# Altium footprint library PcbLib.PcbLib: 63 footprints (part 3 of 4)
Each footprint in its own frame and in the unit in brackets; x right, y up, seen from the top. Pads: shape width x height; smd on the part's side, far side on the other; paste and mask are expansions set on the pad; w line width, h text height; cw(c..) or ccw(c..) is an arc to the next point about the centre after c.
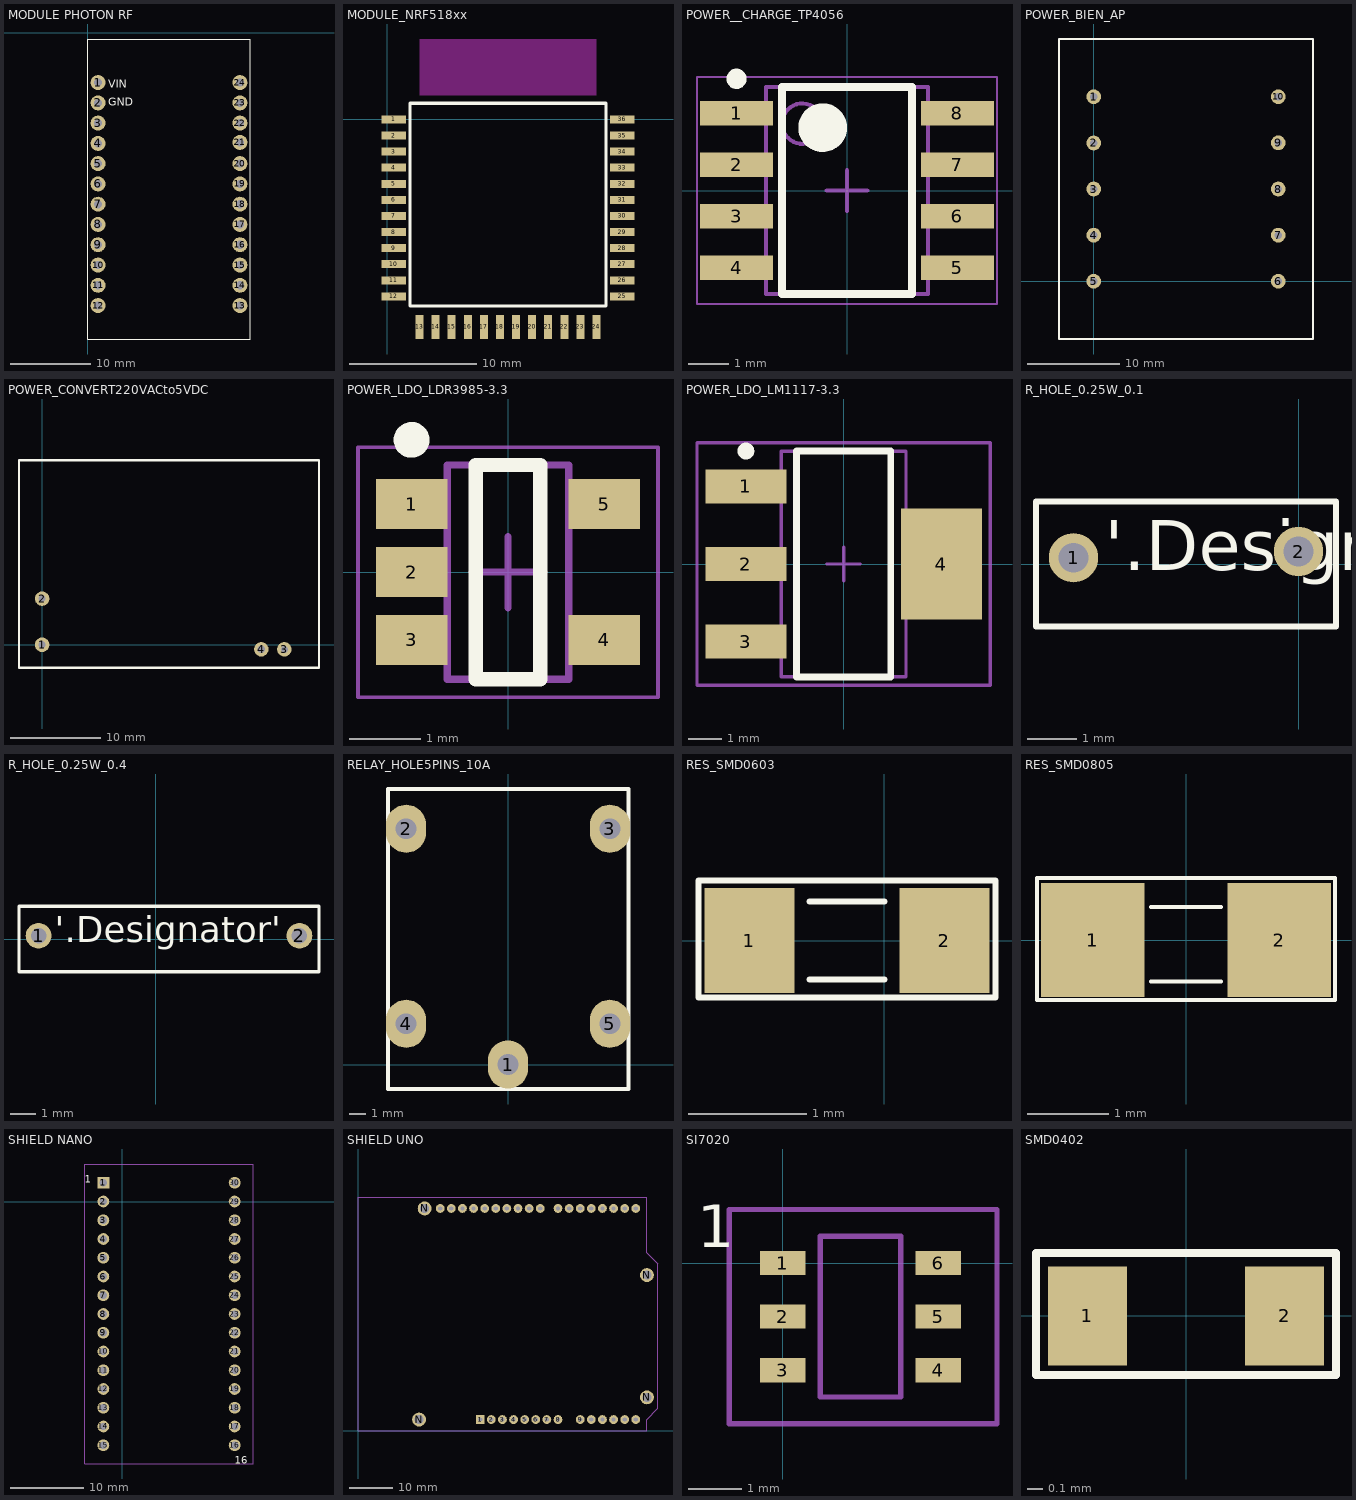
[diagram p2: the footprints below, top view; thin cyan lines are the x and y axes]

## MODULE PHOTON RF [mil]
pads (24):
  round 74 hole 40: 1(50,-245) 2(50,-345) 3(50,-445) 4(50,-545) 5(50,-645) 6(50,-745) 7(50,-845) 8(50,-945) 9(50,-1045) 10(50,-1145) 11(50,-1245) 12(50,-1345) 13(750,-1345) 14(750,-1245) 15(750,-1145) 16(750,-1045) 17(750,-945) 18(750,-845) 19(750,-745) 20(750,-645) 21(750,-540) 22(750,-445) 23(750,-345) 24(750,-245)
Top Overlay:
  lines w5.12: 0,-1510 0,-30 800,-30 800,-1510 0,-1510
  text "GND" at 100,-360 h40
  text "VIN" at 100,-270 h40
3D body "13345.STEP": height 294, standoff -241.83, extent -1,-1512.2 801,-30

## MODULE_NRF518xx [mil] "MODULE BLE NRF51822 Madeby TUAN ANH"
pads (36):
  rect 75x25 smd: 1(20,0) 2(20,-50) 3(20,-100) 4(20,-150) 5(20,-200) 6(20,-250) 7(20,-300) 8(20,-350) 9(20,-400) 10(20,-450) 11(20,-500) 12(20,-550) 25(730,-550) 26(730,-500) 27(730,-450) 28(730,-400) 29(730,-350) 30(730,-300) 31(730,-250) 32(730,-200) 33(730,-150) 34(730,-100) 35(730,-50) 36(730,0)
  rect 25x75 smd: 13(100,-645) 14(150,-645) 15(200,-645) 16(250,-645) 17(300,-645) 18(350,-645) 19(400,-645) 20(450,-645) 21(500,-645) 22(550,-645) 23(600,-645) 24(650,-645)
Top Overlay:
  lines w10: 70,-580 70,50 680,50 680,-580 70,-580
Keep-Out Layer:
  region: 100,250 100,75 650,75 650,250
3D body: height 19.68, standoff 1.97, extent 20,-10 70,10
3D body: height 19.68, standoff 1.97, extent 20,-60 70,-40
3D body: height 19.68, standoff 1.97, extent 20,-110 70,-90
3D body: height 19.68, standoff 1.97, extent 20,-160 70,-140
3D body: height 19.68, standoff 1.97, extent 20,-210 70,-190
3D body: height 19.68, standoff 1.97, extent 20,-260 70,-240
3D body: height 19.68, standoff 1.97, extent 20,-310 70,-290
3D body: height 19.68, standoff 1.97, extent 20,-360 70,-340
3D body: height 19.68, standoff 1.97, extent 20,-410 70,-390
3D body: height 19.68, standoff 1.97, extent 20,-460 70,-440
3D body: height 19.68, standoff 1.97, extent 20,-510 70,-490
3D body: height 19.68, standoff 1.97, extent 20,-560 70,-540
3D body: height 19.68, standoff 1.97, extent 90,-630 110,-580
3D body: height 19.68, standoff 1.97, extent 140,-630 160,-580
3D body: height 19.68, standoff 1.97, extent 190,-630 210,-580
3D body: height 19.68, standoff 1.97, extent 240,-630 260,-580
3D body: height 19.68, standoff 1.97, extent 290,-630 310,-580
3D body: height 19.68, standoff 1.97, extent 340,-630 360,-580
3D body: height 19.68, standoff 1.97, extent 390,-630 410,-580
3D body: height 19.68, standoff 1.97, extent 440,-630 460,-580
3D body: height 19.68, standoff 1.97, extent 490,-630 510,-580
3D body: height 19.68, standoff 1.97, extent 540,-630 560,-580
3D body: height 19.68, standoff 1.97, extent 590,-630 610,-580
3D body: height 19.68, standoff 1.97, extent 640,-630 660,-580
3D body: height 19.68, standoff 1.97, extent 680,-560 730,-540
3D body: height 19.68, standoff 1.97, extent 680,-510 730,-490
3D body: height 19.68, standoff 1.97, extent 680,-460 730,-440
3D body: height 19.68, standoff 1.97, extent 680,-410 730,-390
3D body: height 19.68, standoff 1.97, extent 680,-360 730,-340
3D body: height 19.68, standoff 1.97, extent 680,-310 730,-290
3D body: height 19.68, standoff 1.97, extent 680,-260 730,-240
3D body: height 19.68, standoff 1.97, extent 680,-210 730,-190
3D body: height 19.68, standoff 1.97, extent 680,-160 730,-140
3D body: height 19.68, standoff 1.97, extent 680,-110 730,-90
3D body: height 19.68, standoff 1.97, extent 680,-60 730,-40
3D body: height 19.68, standoff 1.97, extent 680,-10 730,10
3D body: height 39.37, standoff 1.97, extent 70,-585 680,45
3D body: height 59.06, standoff 41.34, extent 270,-400 470,-200

## POWER__CHARGE_TP4056 [mm] "SOP, 8-Leads, Body 4.90x3.90mm, Pitch 1.27mm, IPC Medium Density"
height 1.75
pads (8):
  rect 1.8x0.6 smd: 1(-2.725,1.905) 2(-2.725,0.635) 3(-2.725,-0.635) 4(-2.725,-1.905) 5(2.725,-1.905) 6(2.725,-0.635) 7(2.725,0.635) 8(2.725,1.905)
Top Overlay:
  circle w0.25: c-2.725,2.755 r0.125
  circle w0.6: c-0.6,1.55 r0.3
  lines w0.2: -1.6,-2.55 -1.6,2.55 1.6,2.55 1.6,-2.55 -1.6,-2.55
Mechanical 13:
  circle w0.1: c-1.1,1.65 r0.5
  lines w0.1: -2,-2.55 -2,2.55 2,2.55 2,-2.55 -2,-2.55
Mechanical 15:
  lines w0.05: -3.7,-2.8 -3.7,2.8 3.7,2.8 3.7,-2.8 -3.7,-2.8
  lines w0.1: -0.5,0 0.5,0 ; 0,-0.5 0,0.5
3D body "User Library-sop-8.step": height 1.6, standoff 0, extent -3.021,-2.51 3.021,2.51

## POWER_BIEN_AP [mm]
pads (10):
  round 1.6 hole 0.8: 1(0,20) 2(0,14.986) 3(0,10) 4(0,5) 5(0,0) 6(20,0) 7(20,5) 8(20,10) 9(20,15) 10(20,20)
Top Overlay:
  lines w0.254: -3.75,-6.25 23.75,-6.25 23.75,26.25 -3.75,26.25 -3.75,-6.25
3D body: height 24, standoff 21.7, extent 2.286,-2.54 17.78,22.86
3D body: height 21.5, standoff 0.2, extent -2.54,-5.08 22.86,25.4

## POWER_CONVERT220VACto5VDC [mm]
pads (4):
  round 1.6 hole 0.8: 1(0,0) 2(0,5.08) 3(26.67,-0.508) 4(24.13,-0.5)
Top Overlay:
  lines w0.254: -2.54,-2.54 30.48,-2.54 30.48,20.32 -2.54,20.32 -2.54,-2.54
3D body: height 15, standoff 0.2, extent -1.27,-1.27 29.21,19.05

## POWER_LDO_LDR3985-3.3 [mm] "SOT23, 5-Leads, Body 2.90x2.80mm, Pitch 0.95mm, IPC Medium Density"
height 0.9
pads (5):
  rect 1x0.7 smd: 1(-1.35,0.95) 2(-1.35,0) 3(-1.35,-0.95) 4(1.35,-0.95) 5(1.35,0.95)
Top Overlay:
  circle w0.25: c-1.35,1.85 r0.125
  lines w0.2: -0.45,-1.5 -0.45,1.5 0.45,1.5 0.45,-1.5 -0.45,-1.5
Mechanical 13:
  lines w0.1: -0.85,-1.5 0.85,-1.5 0.85,1.5 -0.85,1.5 -0.85,-1.5
Mechanical 15:
  lines w0.05: -2.1,-1.75 2.1,-1.75 2.1,1.75 -2.1,1.75 -2.1,-1.75
  lines w0.1: -0.5,0 0.5,0 ; 0,-0.5 0,0.5
3D body: height 0.9, standoff 0.05, extent -0.85,-1.5 0.85,1.5

## POWER_LDO_LM1117-3.3 [mm] "SOT223, 4-Leads, Body 6.5x3.5mm, Pitch 2.3mm, Lead Span 7mm, IPC Medium Density"
height 1.8
pads (4):
  rect 2.4x1 smd: 1(-2.9,2.3) 2(-2.9,0) 3(-2.9,-2.3)
  rect 2.4x3.3 smd: 4(2.9,0)
Top Overlay:
  circle w0.25: c-2.9,3.35 r0.125
  lines w0.2: -1.4,-3.35 -1.4,3.35 1.4,3.35 1.4,-3.35 -1.4,-3.35
Mechanical 13:
  lines w0.1: -1.85,-3.35 -1.85,3.35 1.85,3.35 1.85,-3.35 -1.85,-3.35
Mechanical 15:
  lines w0.1: -0.5,0 0.5,0 ; 0,-0.5 0,0.5 ; -4.35,-3.6 -4.35,3.6 4.35,3.6 4.35,-3.6 -4.35,-3.6
3D body: height 1.8, standoff 0, extent -1.85,-3.35 1.85,3.35

## R_HOLE_0.25W_0.1 [mm]
pads (2):
  round 1 hole 0.6: 1(-4.572,0.127) 2(0,0.254)
Top Overlay:
  lines w0.13: -5.334,-1.27 -5.334,1.27 0.762,1.27 0.762,-1.27 -5.334,-1.27
  text "'.Designator'" at -3.937,-0.127 h1.02
3D body "User Library-RESISTOR, 0_25 W, 0_4 IN LEAD PITCH.step": height 2.93, standoff -2.54, extent -4.826,-1.041 5.944,1.27

## R_HOLE_0.25W_0.4 [mm]
pads (2):
  round 1 hole 0.6: 1(-4.572,0.127) 2(5.588,0.127)
Top Overlay:
  lines w0.13: -5.334,-1.27 -5.334,1.27 6.35,1.27 6.35,-1.27 -5.334,-1.27
  text "'.Designator'" at -3.937,-0.127 h1.02
3D body "User Library-RESISTOR, 0_25 W, 0_4 IN LEAD PITCH.step": height 2.93, standoff -2.54, extent -4.826,-1.041 5.944,1.27

## RELAY_HOLE5PINS_10A [mm]
pads (5):
  oval 2.5x3 hole 1.3: 1(0,0) 2(-6.35,14.7) 3(6.35,14.7) 4(-6.35,2.54) 5(6.35,2.54)
Top Overlay:
  lines w0.254: -7.493,-1.524 -7.493,17.176 7.507,17.176 7.507,-1.524 -7.493,-1.524
3D body: height 16, standoff 0, extent -7.493,-1.524 7.493,17.145

## RES_SMD0603 [mil] "Compoment SMD 60x30mil"
height 50
pads (2):
  rect 30x35 smd: 1(-45,0) 2(20,0)
Top Overlay:
  lines w2: -25,-13 0,-13 ; -25,13 0,13 ; -62,-19 -52.75,-19 -0.25,-19 37,-19 37,20 -62,20 -62,-19
3D body "SW3DPS-RESISTOR 0603-DEFAULT.STEP": height 18.9, standoff -1.18, extent -46.49,-16.92 16.51,16.93

## RES_SMD0805 [mil] "Compoment SMD 80x50mil"
height 50
pads (2):
  rect 50x55 smd: 1(-45,0) 2(45,0)
Top Overlay:
  lines w2: -17,-20 17,-20 ; -17,16 17,16 ; -72,-29 -72,30 72,30 72,-29 -72,-29
3D body "SW3dPS-smt_resistor_packages.STEP": height 24.02, standoff -0.39, extent -39.76,-27 39.77,23

## SHIELD NANO [mm]
pads (30):
  rect 1.6x1.6 hole 1: 1(-2.54,2.54)
  round 1.6 hole 1: 2(-2.54,0) 3(-2.54,-2.54) 4(-2.54,-5.08) 5(-2.54,-7.62) 6(-2.54,-10.16) 7(-2.54,-12.7) 8(-2.54,-15.24) 9(-2.54,-17.78) 10(-2.54,-20.32) 11(-2.54,-22.86) 12(-2.54,-25.4) 13(-2.54,-27.94) 14(-2.54,-30.48) 15(-2.54,-33.02) 16(15.24,-33.02) 17(15.24,-30.48) 18(15.24,-27.94) 19(15.24,-25.4) 20(15.24,-22.86) 21(15.24,-20.32) 22(15.24,-17.78) 23(15.24,-15.24) 24(15.24,-12.7) 25(15.24,-10.16) 26(15.24,-7.62) 27(15.24,-5.08) 28(15.24,-2.54) 29(15.24,0) 30(15.24,2.54)
Top Overlay:
  text "16" at 15.24,-35.56 h1
  text "1" at -5.08,2.54 h1
Mechanical 1:
  lines w0.1: -5.08,-35.56 17.78,-35.56 17.78,5.08 -5.08,5.08 -5.08,-35.56

## SHIELD UNO [mm]
pads (36):
  rect 2x2 hole 1: 1(27.94,2.54)
  round 2 hole 1: 2(30.48,2.54) 3(33.02,2.54) 4(35.56,2.54) 5(38.1,2.54) 6(40.64,2.54) 7(43.18,2.54) 8(45.72,2.54) 9(50.8,2.54) 10(53.34,2.54) 11(55.88,2.54) 12(58.42,2.54) 13(60.96,2.54) 14(63.5,2.54) 15(63.5,50.8) 16(60.96,50.8) 17(58.42,50.8) 18(55.88,50.8) 19(53.34,50.8) 20(50.8,50.8) 21(48.26,50.8) 22(45.72,50.8) 23(41.656,50.8) 24(39.116,50.8) 25(36.576,50.8) 26(34.036,50.8) 27(31.496,50.8) 28(28.956,50.8) 29(26.416,50.8) 30(23.876,50.8) 31(21.336,50.8) 32(18.796,50.8)
  round 3.175 hole 2.032: N(13.97,2.54) N(15.24,50.8) N(66.04,7.62) N(66.04,35.56)
Mechanical 1:
  lines w0.254: 0,0 0,2.54 0,53.34 66.04,53.34 66.04,50.8 66.04,40.64 68.58,38.1 68.58,5.08 66.04,2.54 66.04,0 0,0

## SI7020 [mm] "DFN, 4-Leads, Body 3.00x3.00mm, Pitch 0.65mm, IPC Medium Density"
height 0.8
pads (6):
  rect 0.85x0.45 smd: 1(0,0) 2(0,-1) 3(0,-2) 4(2.9,-2) 5(2.9,-1) 6(2.9,0)
Top Overlay:
  text "1" at -1.6,0.3 h0.8
Mechanical 1:
  lines w0.1: 2.2,-2.3 2.2,-2.5 0.7,-2.5 0.7,0.5 2.2,0.5 ; -1,-3 -1,1 4,1 4,-3 -1,-3
Mechanical 13:
  lines w0.1: 2.2,-2.3 2.2,0.5

## SMD0402 [mil]
pads (2):
  rect 20x25 smd: 1(-25,0) 2(25,0)
Top Overlay:
  lines w2: -38,-15 -38,16 38,16 38,-15 -38,-15
3D body "User Library-Chip Resistor_0402 (1005).STEP": height 14.37, standoff 0, extent -19.68,-9.76 19.68,10